# EAGLE library part BEAGLEBONE-BLACK (library parts)
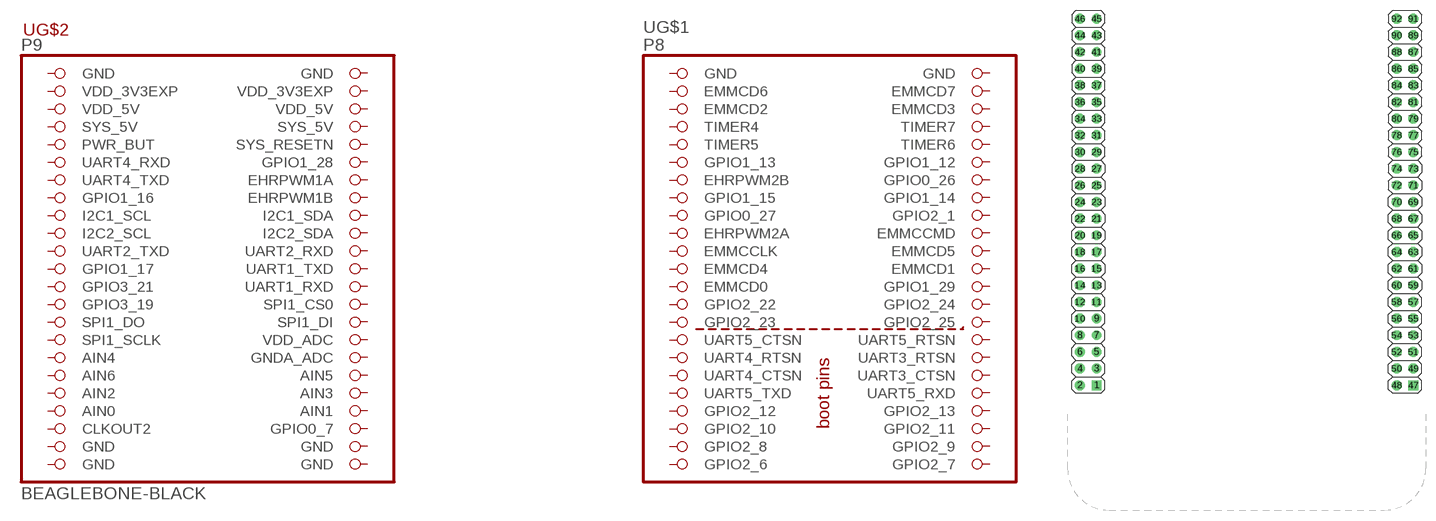
[diagram p7: symbol with the pads of BEAGLEBONE_SHIELD; footprint BEAGLEBONE_SHIELD]

Designator prefix -; gates G$1=BBB-P8 G$2=BBB-P9

## BEAGLEBONE-BLACK  [BEAGLEBONE_SHIELD]
1  G$1:GND  pwr
2  G$1:GND  pwr
3  G$1:EMMCD6  pas
4  G$1:EMMCD7  pas
5  G$1:EMMCD2  pas
6  G$1:EMMCD3  pas
7  G$1:TIMER4  pas
8  G$1:TIMER7  pas
9  G$1:TIMER5  pas
10  G$1:TIMER6  pas
11  G$1:GPIO1_13  pas
12  G$1:GPIO1_12  pas
13  G$1:EHRPWM2B  pas
14  G$1:GPIO0_26  pas
15  G$1:GPIO1_15  pas
16  G$1:GPIO1_14  pas
17  G$1:GPIO0_27  pas
18  G$1:GPIO2_1  pas
19  G$1:EHRPWM2A  pas
20  G$1:EMMCCMD  pas
21  G$1:EMMCCLK  pas
22  G$1:EMMCD5  pas
23  G$1:EMMCD4  pas
24  G$1:EMMCD1  pas
25  G$1:EMMCD0  pas
26  G$1:GPIO1_29  pas
27  G$1:GPIO2_22  pas
28  G$1:GPIO2_24  pas
29  G$1:GPIO2_23  pas
30  G$1:GPIO2_25  pas
31  G$1:UART5_CTSN  pas
32  G$1:UART5_RTSN  pas
33  G$1:UART4_RTSN  pas
34  G$1:UART3_RTSN  pas
35  G$1:UART4_CTSN  pas
36  G$1:UART3_CTSN  pas
37  G$1:UART5_TXD  pas
38  G$1:UART5_RXD  pas
39  G$1:GPIO2_12  pas
40  G$1:GPIO2_13  pas
41  G$1:GPIO2_10  pas
42  G$1:GPIO2_11  pas
43  G$1:GPIO2_8  pas
44  G$1:GPIO2_9  pas
45  G$1:GPIO2_6  pas
46  G$1:GPIO2_7  pas
47  G$2:GND  pwr
48  G$2:GND  pwr
49  G$2:VDD_3V3EXP  pwr
50  G$2:VDD_3V3EXP  pwr
51  G$2:VDD_5V  pwr
52  G$2:VDD_5V  pwr
53  G$2:SYS_5V  pas
54  G$2:SYS_5V  pas
55  G$2:PWR_BUT  pas
56  G$2:SYS_RESETN  pas
57  G$2:UART4_RXD  pas
58  G$2:GPIO1_28  pas
59  G$2:UART4_TXD  pas
60  G$2:EHRPWM1A  pas
61  G$2:GPIO1_16  pas
62  G$2:EHRPWM1B  pas
63  G$2:I2C1_SCL  pas
64  G$2:I2C1_SDA  pas
65  G$2:I2C2_SCL  pas
66  G$2:I2C2_SDA  pas
67  G$2:UART2_TXD  pas
68  G$2:UART2_RXD  pas
69  G$2:GPIO1_17  pas
70  G$2:UART1_TXD  pas
71  G$2:GPIO3_21  pas
72  G$2:UART1_RXD  pas
73  G$2:GPIO3_19  pas
74  G$2:SPI1_CS0  pas
75  G$2:SPI1_DO  pas
76  G$2:SPI1_DI  pas
77  G$2:SPI1_SCLK  pas
78  G$2:VDD_ADC  pas
79  G$2:AIN4  pas
80  G$2:GNDA_ADC  pas
81  G$2:AIN6  pas
82  G$2:AIN5  pas
83  G$2:AIN2  pas
84  G$2:AIN3  pas
85  G$2:AIN0  pas
86  G$2:AIN1  pas
87  G$2:CLKOUT2  pas
88  G$2:GPIO0_7  pas
89  G$2:GND  pwr
90  G$2:GND  pwr
91  G$2:GND  pwr
92  G$2:GND  pwr

## Footprint BEAGLEBONE_SHIELD (pad centres in mm)
drill 1 square: 1 4.445,19.05; 47 52.705,19.05
drill 1: 2 1.905,19.05; 3 4.445,21.59; 4 1.905,21.59; 5 4.445,24.13; 6 1.905,24.13; 7 4.445,26.67; 8 1.905,26.67; 9 4.445,29.21; 10 1.905,29.21; 11 4.445,31.75; 12 1.905,31.75; 13 4.445,34.29; 14 1.905,34.29; 15 4.445,36.83; 16 1.905,36.83; 17 4.445,39.37; 18 1.905,39.37; 19 4.445,41.91; 20 1.905,41.91; 21 4.445,44.45; 22 1.905,44.45; 23 4.445,46.99; 24 1.905,46.99; 25 4.445,49.53; 26 1.905,49.53; 27 4.445,52.07; 28 1.905,52.07; 29 4.445,54.61; 30 1.905,54.61; 31 4.445,57.15; 32 1.905,57.15; 33 4.445,59.69; 34 1.905,59.69; 35 4.445,62.23; 36 1.905,62.23; 37 4.445,64.77; 38 1.905,64.77; 39 4.445,67.31; 40 1.905,67.31; 41 4.445,69.85; 42 1.905,69.85; 43 4.445,72.39; 44 1.905,72.39; 45 4.445,74.93; 46 1.905,74.93; 48 50.165,19.05; 49 52.705,21.59; 50 50.165,21.59; 51 52.705,24.13; 52 50.165,24.13; 53 52.705,26.67; 54 50.165,26.67; 55 52.705,29.21; 56 50.165,29.21; 57 52.705,31.75; 58 50.165,31.75; 59 52.705,34.29; 60 50.165,34.29; 61 52.705,36.83; 62 50.165,36.83; 63 52.705,39.37; 64 50.165,39.37; 65 52.705,41.91; 66 50.165,41.91; 67 52.705,44.45; 68 50.165,44.45; 69 52.705,46.99; 70 50.165,46.99; 71 52.705,49.53; 72 50.165,49.53; 73 52.705,52.07; 74 50.165,52.07; 75 52.705,54.61; 76 50.165,54.61; 77 52.705,57.15; 78 50.165,57.15; 79 52.705,59.69; 80 50.165,59.69; 81 52.705,62.23; 82 50.165,62.23; 83 52.705,64.77; 84 50.165,64.77; 85 52.705,67.31; 86 50.165,67.31; 87 52.705,69.85; 88 50.165,69.85; 89 52.705,72.39; 90 50.165,72.39; 91 52.705,74.93; 92 50.165,74.93